# EAGLE library part LTC1299 (library lbm)
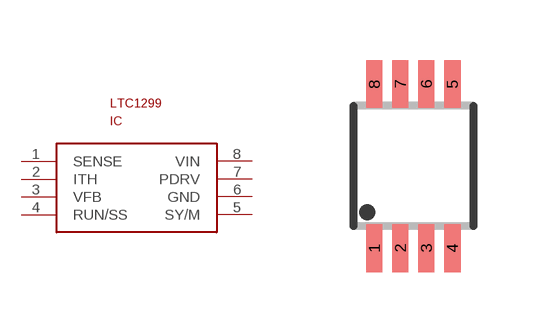
[diagram p44: symbol with the pads of MS8; footprint MS8]

Designator prefix IC

## LTC1299  [MS8]
1  SENSE
2  ITH
3  VFB
4  RUN/SS
5  SY/M
6  GND
7  PDRV
8  VIN

## Footprint MS8 (pad centres in mm)
smd 0.4 x 1.2: 1 -2.245,0.49; 2 -1.595,0.49; 3 -0.945,0.49; 4 -0.295,0.49; 5 -0.295,4.59; 6 -0.945,4.59; 7 -1.595,4.59; 8 -2.245,4.59